# EAGLE library part 10F322_SOT-23 (library dan)
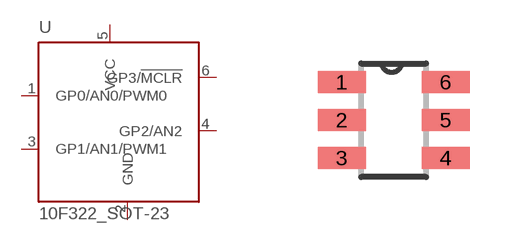
[diagram p2: symbol with the pads of SOT-23-6; footprint SOT-23-6]

Designator prefix -

## 10F322_SOT-23  [SOT-23-6]
1  GP0/AN0/PWM0
2  GND  pwr
3  GP1/AN1/PWM1
4  GP2/AN2
5  VCC  pwr
6  GP3/!MCLR  in

## Footprint SOT-23-6 (pad centres in mm)
smd 1.2 x 0.55: 1 -1.3,0.95; 2 -1.3,0; 3 -1.3,-0.95; 4 1.3,-0.95; 5 1.3,0; 6 1.3,0.95